# Altium schematic symbol library 74LVC1G00.SchLib: 1 symbol
Pins are listed as number, name and electrical type; pins without a type are passive.

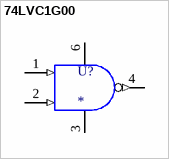
[diagram p0: symbol 74LVC1G00]

## 74LVC1G00
designator U?
pins: 1 A (in), 2 B (in), 3 GND (power), 4 Y (out), 6 VCC (power)